# Altium footprint library Misc.PcbLib: 53 footprints (part 1 of 4)
Each footprint in its own frame and in the unit in brackets; x right, y up, seen from the top. Pads: shape width x height; smd on the part's side, far side on the other; paste and mask are expansions set on the pad; w line width, h text height; cw(c..) or ccw(c..) is an arc to the next point about the centre after c.
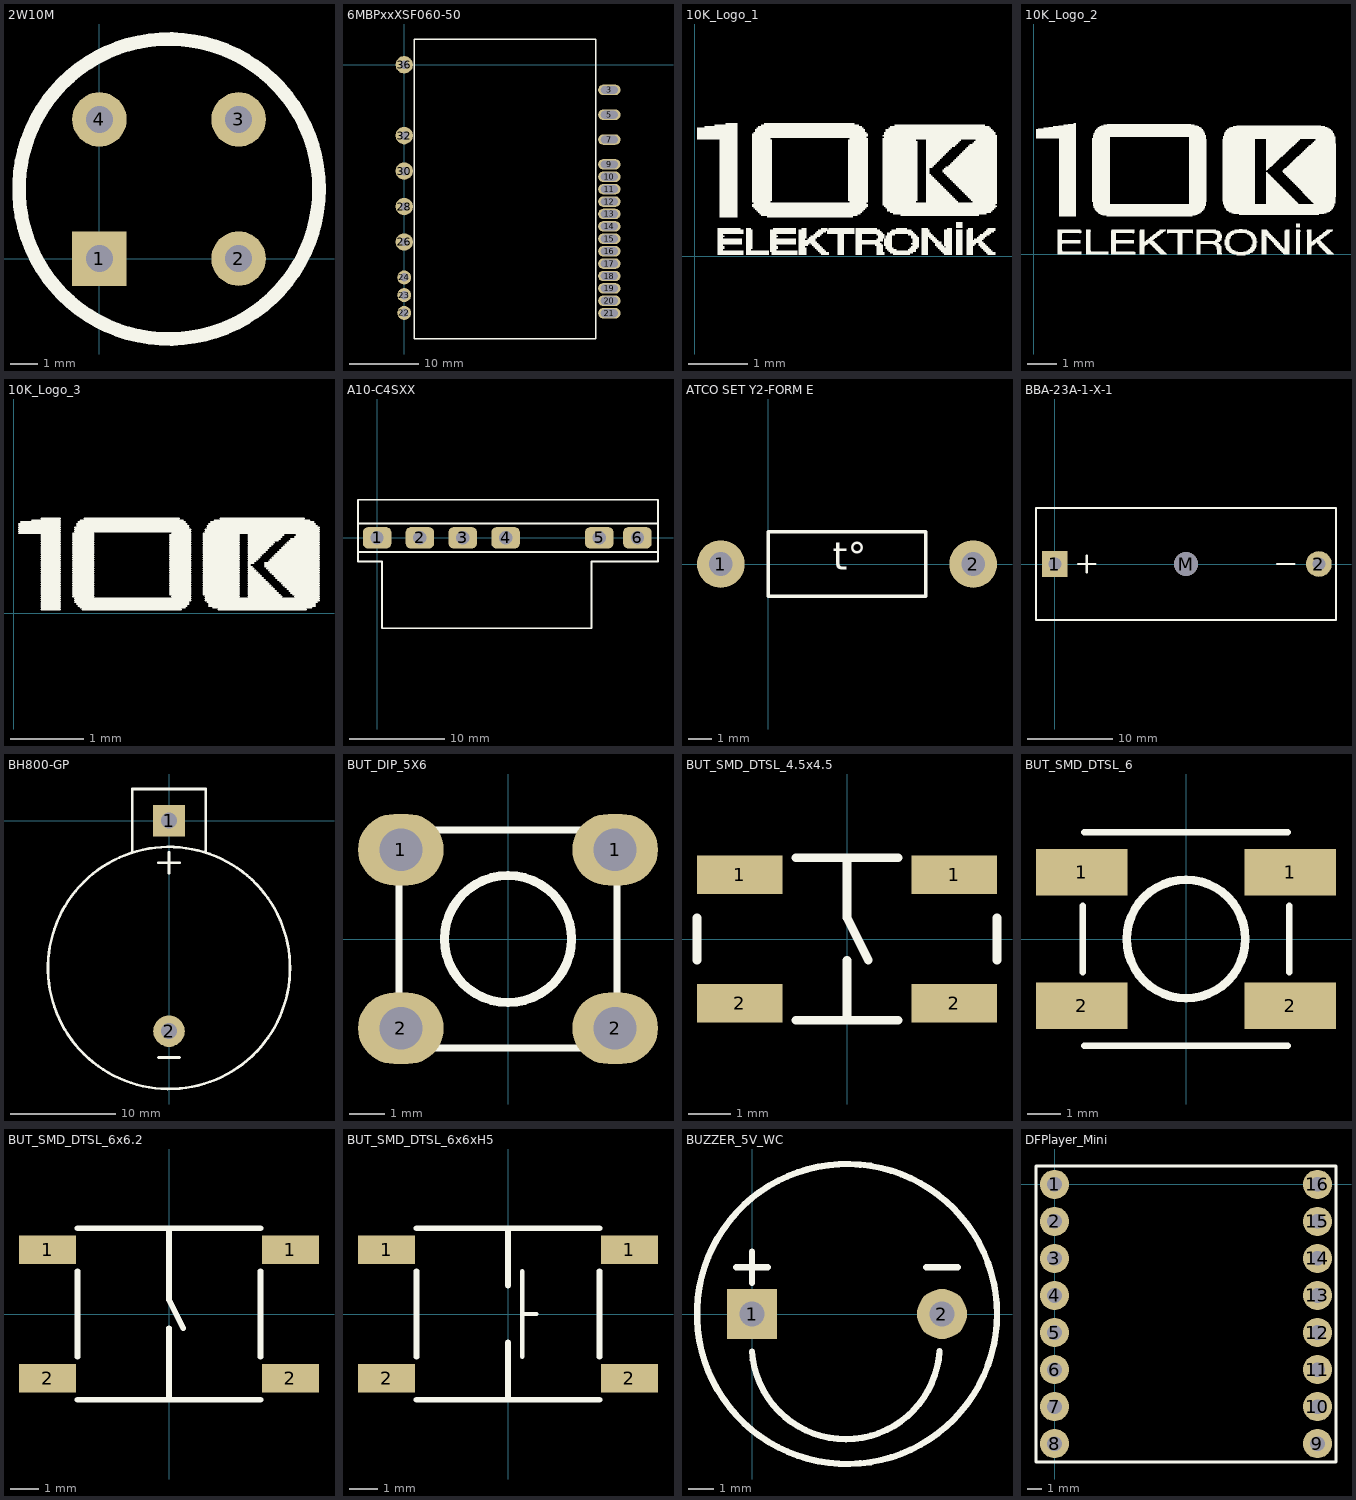
[diagram p0: the footprints below, top view; thin cyan lines are the x and y axes]

## 2W10M [mm]
pads (4):
  rect 2x2 hole 1: 1(0,0)
  round 2 hole 1: 2(5.1,0) 3(5.1,5.1) 4(0,5.1)
Top Overlay:
  circle w0.5: c2.55,2.55 r5.5
3D body: height 5, standoff 0, extent -2.95,-2.95 8.05,8.05

## 6MBPxxXSF060-50 [mm]
pads (24):
  oval 3.2x1.5 hole 1.1 slot 2.4 at 0 deg: 3(29.4,-3.606) 5(29.4,-7.162) 7(29.4,-10.718) 9(29.4,-14.274) 10(29.4,-16.052) 11(29.4,-17.83) 12(29.4,-19.608) 13(29.4,-21.386) 14(29.4,-23.164) 15(29.4,-24.942) 16(29.4,-26.72) 17(29.4,-28.498) 18(29.4,-30.276) 19(29.4,-32.054) 20(29.4,-33.832) 21(29.4,-35.61)
  round 2 hole 1.2: 22(0,-35.56) 23(0,-33.02) 24(0,-30.48)
  round 2.5 hole 1.2: 26(0,-25.4) 28(0,-20.32) 30(0,-15.24) 32(0,-10.16) 36(0,0)
Top Overlay:
  lines w0.2: 1.45,-39.306 27.45,-39.306 27.45,3.694 1.45,3.694 1.45,-39.306
3D body: height 3.7, standoff 1, extent 1.45,-39.306 27.45,3.694

## 10K_Logo_1 [mm]
Top Overlay:
  drawing of 575 lines, arcs and shapes, not listed

## 10K_Logo_2 [mm]
Top Overlay:
  drawing of 1135 lines, arcs and shapes, not listed

## 10K_Logo_3 [mm]
Top Overlay:
  drawing of 253 lines, arcs and shapes, not listed

## A10-C4SXX [mm]
pads (6):
  rrect50% 3x2.25 hole 1.4 square: 1(0,0) 2(4.5,0) 3(9,0) 4(13.5,0) 5(23.34,0) 6(27.34,0)
Top Overlay:
  lines w0.2: -2,-1.5 -2,-2.5 0.5,-2.5 0.5,-9.5 22.5,-9.5 22.5,-2.5 27,-2.5 29.5,-2.5 29.5,-1.5 ; -2,-1.5 29.5,-1.5 ; -2,-1.5 -2,0 -2,1.5 ; -2,1.5 -2,4 29.5,4 29.5,1.5 ; -2,1.5 29.5,1.5 ; 29.5,-1.5 29.5,1.5

## ATCO SET Y2-FORM E [mm]
height 14
pads (2):
  round 2 hole 1: 1(-2,0) 2(8.6,0)
Top Overlay:
  lines w0.15: 0,-1.35 0,1.35 6.6,1.35 6.6,-1.35 0,-1.35
  text "t°" at 2.701,-0.643 h2
3D body: height 7, standoff 0, extent 7.608,-0.998 9.6,0.998
3D body: height 7, standoff 0, extent -2.992,-0.998 -1,0.998
3D body: height 7, standoff 2, extent 0,-1.3 6.6,1.3

## BBA-23A-1-X-1 [mm]
height 5.4
pads (3):
  rect 3x3 hole 1.5: 1(0,0)
  round 3 hole 1.5: 2(30.8,0)
  round 2.8 hole 2.8 unplated: M(15.3,0)
Top Overlay:
  lines w0.254: 2.715,0 4.715,0 ; 3.715,-1 3.715,1 ; 25.945,0 27.945,0 ; -2.2,-6.55 32.8,-6.55 32.8,6.55 -2.2,6.55 -2.2,-6.55

## BH800-GP [mm]
height 5.4
pads (2):
  rect 3x3 hole 1.5: 1(0,0)
  round 3 hole 1.5: 2(0,-20)
Top Overlay:
  circle w0.254: c0,-14 r11.5
  lines w0.254: -3.5,-3 -3.5,3 3.5,3 3.5,-3 ; -1,-22.5 1,-22.5 ; -1,-4 1,-4 ; 0,-5 0,-3
3D body "BATTERY HOLDER CR2032.step": height 7.91, standoff -3, extent -11.5,-25.5 11.5,3

## BUT_DIP_5X6 [mm]
pads (4):
  oval 2.4x2 hole 1.2: 1(-3,2.5) 1(3,2.5) 2(-3,-2.5) 2(3,-2.5)
Top Overlay:
  circle w0.254: c0,0 r1.778
  lines w0.2: -3.048,-3.048 3.048,-3.048 3.048,3.048 -3.048,3.048 -3.048,-3.048
3D body "_DIP_MISC_SWT_5MM.STEP": height 4.05, standoff -3.81, extent -3.495,-2.952 3.495,3.048

## BUT_SMD_DTSL_4.5x4.5 [mm]
pads (4):
  rect 2x0.9 smd: 1(-2.5,1.5) 1(2.5,1.5) 2(-2.5,-1.5) 2(2.5,-1.5)
Top Overlay:
  lines w0.2: -3.502,-0.5 -3.502,0.5 ; -1.2,-1.9 1.2,-1.9 ; -1.2,1.9 1.2,1.9 ; 0,-1.9 0,-0.5 ; 0,1.9 0,0.5 0.5,-0.5 ; 3.502,-0.5 3.502,0.5
3D body: height 4, standoff 2, extent -0.992,-0.998 1,0.998
3D body: height 2.9, standoff 0, extent -2.25,-2.25 2.25,2.25

## BUT_SMD_DTSL_6 [mm]
pads (4):
  rect 2.75x1.4 smd: 1(-3.125,2) 1(3.125,2) 2(-3.125,-2) 2(3.125,-2)
Top Overlay:
  circle w0.254: c0,0 r1.778
  lines w0.2: -3.1,-1 -3.1,1 ; -3.048,-3.2 3.048,-3.2 ; -3.048,3.2 3.048,3.2 ; 3.1,-1 3.1,1

## BUT_SMD_DTSL_6x6.2 [mm]
pads (4):
  rect 2x1 smd: 1(-4.25,2.25) 1(4.25,2.25) 2(-4.25,-2.25) 2(4.25,-2.25)
Top Overlay:
  lines w0.2: -3.2,-3 0,-3 ; -3.2,-1.5 -3.2,1.5 ; -3.2,3 0,3 ; 0,-0.5 0,-3 ; 0.5,-0.5 0,0.5 0,3 ; 3.2,-3 0,-3 ; 3.2,-1.5 3.2,1.5 ; 3.2,3 0,3

## BUT_SMD_DTSL_6x6xH5 [mm]
pads (4):
  rect 2x1 smd: 1(-4.25,2.25) 1(4.25,2.25) 2(-4.25,-2.25) 2(4.25,-2.25)
Top Overlay:
  lines w0.15: 0.5,-1.5 0.5,1.5 ; 0.5,0 1,0
  lines w0.2: -3.2,-3 0,-3 ; -3.2,-1.5 -3.2,1.5 ; -3.2,3 0,3 ; 0,-1 0,-3 ; 0,1 0,3 ; 3.2,-3 0,-3 ; 3.2,-1.5 3.2,1.5 ; 3.2,3 0,3
3D body "CircuitWorks-TACT SMD 6X6.step": height 5, standoff -0.05, extent -4.075,-3 4.075,3

## BUZZER_5V_WC [mm]
pads (2):
  rect 2x2 hole 1: 1(0,0)
  round 2 hole 1: 2(7.6,0)
Top Overlay:
  circle w0.254: c3.8,0 r6
  lines w0.254: -0.625,1.875 0.625,1.875 ; 0,-1.5 ccw(c3.75,-1.25) 7.501,-1.484 ; 0,1.25 0,2.5 ; 6.975,1.875 8.225,1.875
3D body "ai-1223-twt-5v-5-r.stp": height 9.55, standoff -6, extent -3.689,-6 9.75,6

## DFPlayer_Mini [mm]
pads (16):
  round 2 hole 1 unplated: 1(0,0) 2(0,-2.54) 3(0,-5.08) 4(0,-7.62) 5(0,-10.16) 6(0,-12.7) 7(0,-15.24) 8(0,-17.78) 9(18.034,-17.78) 10(18.034,-15.24) 11(18.034,-12.7) 12(18.034,-10.16) 13(18.034,-7.62) 14(18.034,-5.08) 15(18.034,-2.54) 16(18.034,0)
Top Overlay:
  lines w0.2: -1.27,-19.05 19.05,-19.05 19.304,-19.05 19.304,-18.288 19.304,1.27 18.796,1.27 -1.27,1.27 -1.27,-19.05
3D body "DFPlayer Mini Assem v1.step": height 8, standoff -3.2, extent -1.383,-22.077 19.417,1.383